# Altium schematic symbol library gpa_connectors.SchLib: 23 symbols
Pins are listed as number, name and electrical type; pins without a type are passive.

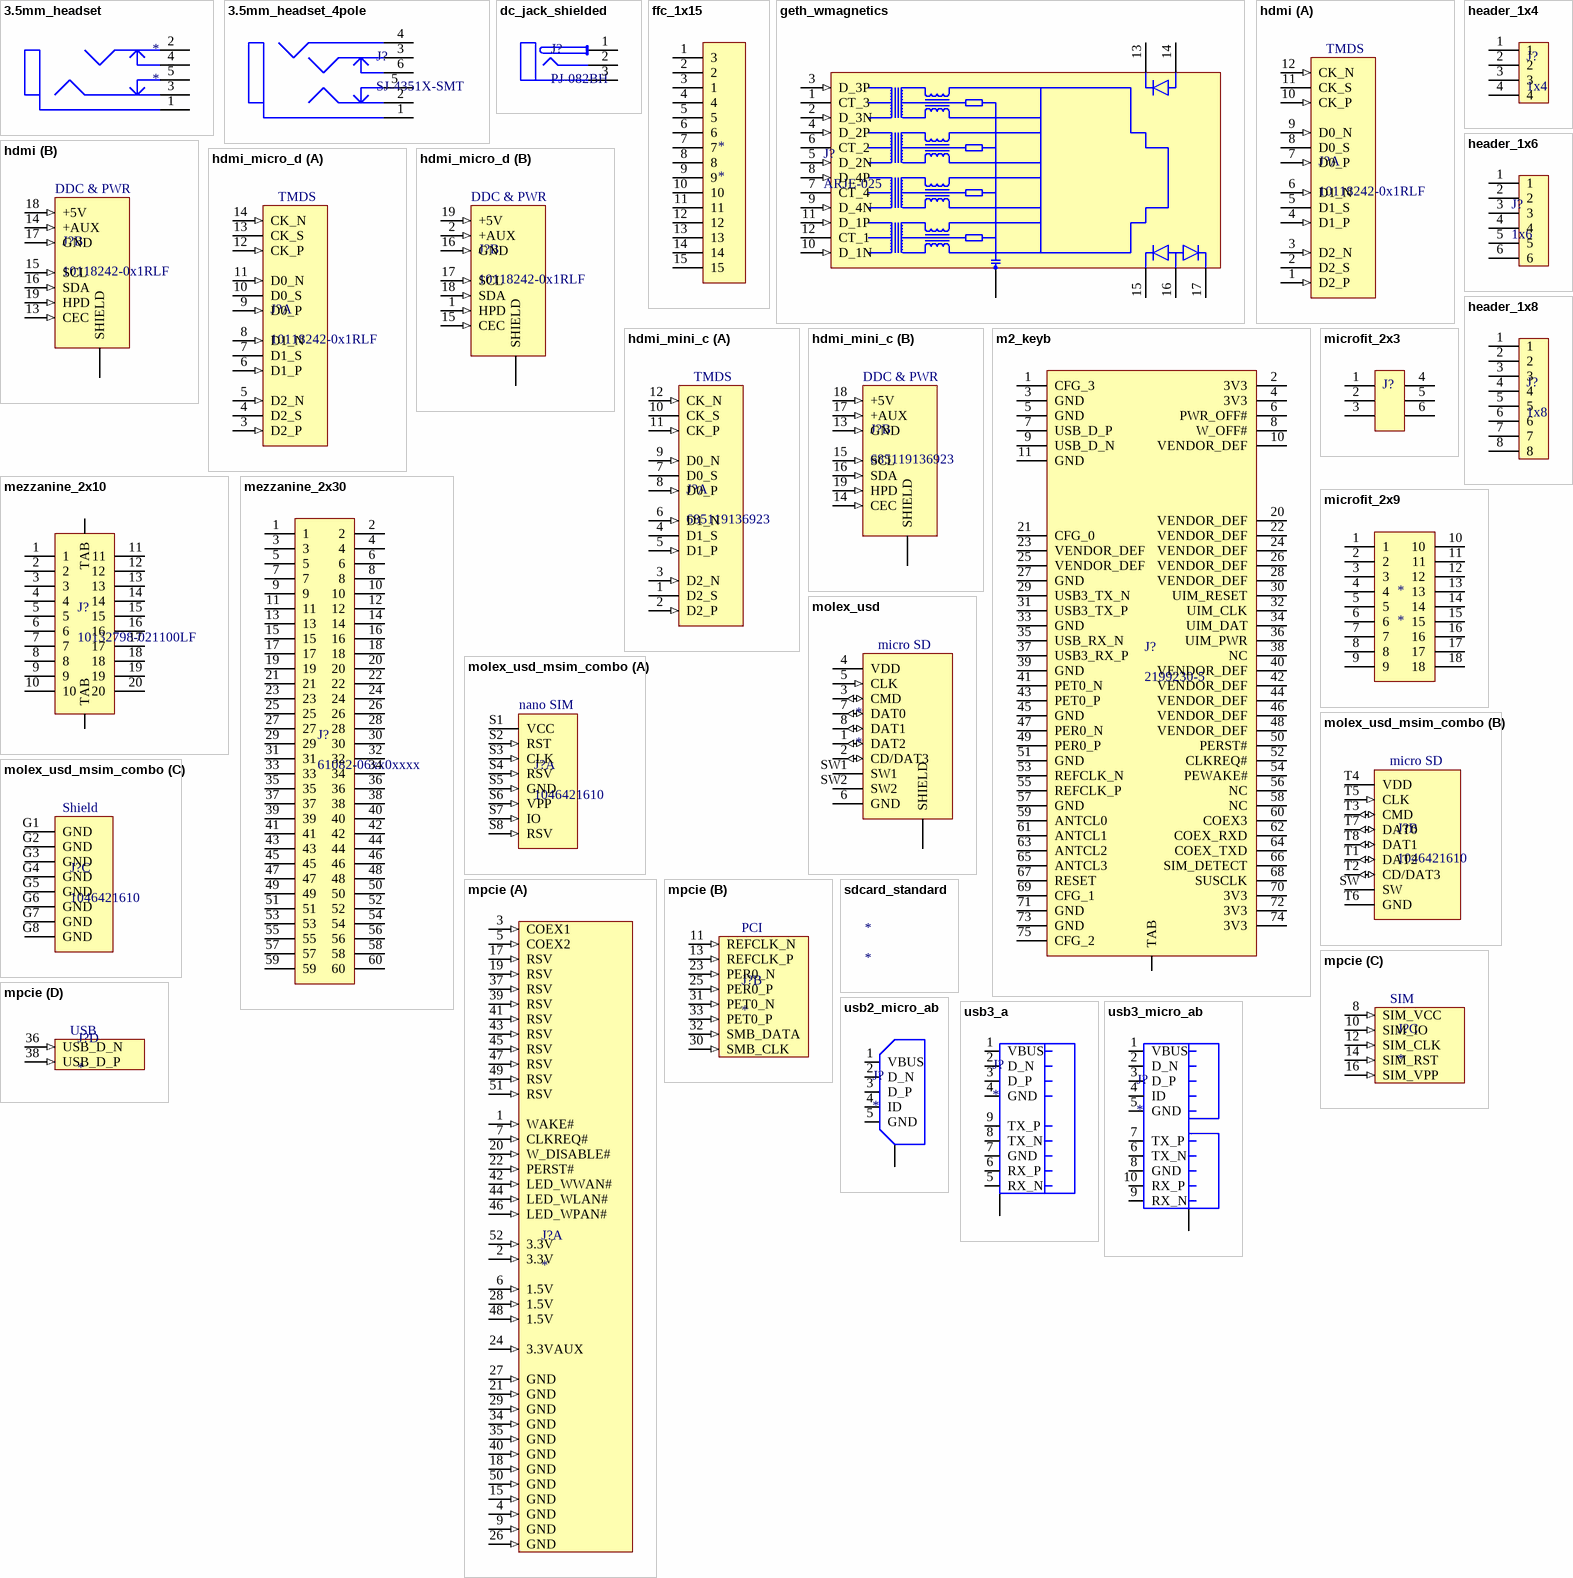
[diagram p0: symbols 3.5mm_headset to usb3_micro_ab]

## 3.5mm_headset
designator *
pins: 1, 2, 3, 4, 5

## 3.5mm_headset_4pole
designator J?, comment SJ-4351X-SMT
footprint CUI_SJ-4351X-SMT (3.5mm Headphone connectoor by CUI)
pins: 1, 2, 3, 4, 5, 6

## dc_jack_shielded
designator J?, comment PJ-082BH
mouser#: 490-PJ-082BH; digikey#: CP-082BHCT-ND
footprint CUI_DC_5.5MM_PJ028 (2.5MM 5.5MM PJ-028BH)
pins: 1, 2, 3

## ffc_1x15
designator *
footprint fci_ffc_1mm_1x15
pins: 1 3, 2, 3 1, 4, 5, 6, 7, 8, 9, 10, 11, 12, 13, 14, 15

## geth_wmagnetics
designator J?, comment ARJE-025
RJ45 with integrated magnetics
footprint abraconn_rj45_arje0025
pins: 1 CT_3, 2 D_3N (in), 3 D_3P (in), 4 D_2P (in), 5 D_2N (in), 6 CT_2, 7 CT_4, 8 D_4P (in), 9 D_4N (in), 10 D_1N (in), 11 D_1P (in), 12 CT_1, 13, 14, 15, 16, 17, SHIELD (power)

## hdmi
designator J?, comment 10118242-0x1RLF
footprint molex_hdmi (47151-0001)
part A pins: 1 D2_P (in), 2 D2_S (power), 3 D2_N (in), 4 D1_P (in), 5 D1_S (power), 6 D1_N (in), 7 D0_P (in), 8 D0_S (power), 9 D0_N (in), 10 CK_P (in), 11 CK_S (power), 12 CK_N (in)
part B pins: 13 CEC (in), 14 +AUX (in), 15 SCL (in), 16 SDA (in), 17 GND (in), 18 +5V (in), 19 HPD (in), SHIELD
part A text: TMDS
part B text: DDC & PWR

## hdmi_micro_d
designator J?, comment 10118242-0x1RLF
footprint fci_micro_hdmi (10118242-001RLF)
part A pins: 3 D2_P (in), 4 D2_S (power), 5 D2_N (in), 6 D1_P (in), 7 D1_S (power), 8 D1_N (in), 9 D0_P (in), 10 D0_S (power), 11 D0_N (in), 12 CK_P (in), 13 CK_S (power), 14 CK_N (in)
part B pins: 1 HPD (in), 2 +AUX (in), 15 CEC (in), 16 GND (in), 17 SCL (in), 18 SDA (in), 19 +5V (in), SHIELD
part A text: TMDS
part B text: DDC & PWR

## hdmi_mini_c
designator J?, comment 685119136923
footprint wurth_hdmi_mini
part A pins: 1 D2_S (power), 2 D2_P (in), 3 D2_N (in), 4 D1_S (power), 5 D1_P (in), 6 D1_N (in), 7 D0_S (power), 8 D0_P (in), 9 D0_N (in), 10 CK_S (power), 11 CK_P (in), 12 CK_N (in)
part B pins: 13 GND (in), 14 CEC (in), 15 SCL (in), 16 SDA (in), 17 +AUX (in), 18 +5V (in), 19 HPD (in), SHIELD
part A text: TMDS
part B text: DDC & PWR

## header_1x4
designator J?, comment 1x4
footprint hdr_100mil_1x4
pins: 1, 2, 3, 4

## header_1x6
designator J?, comment 1x6
footprint hdr_100mil_1x6
pins: 1, 2, 3, 4, 5, 6

## header_1x8
designator J?, comment 1x8
footprint hdr_100mil_1x8
pins: 1, 2, 3, 4, 5, 6, 7, 8

## m2_keyb
designator J?, comment 2199230-5
footprint te_m2_keyb_2230 (TE Connectivity 2199230-5 + JAE SM3ZS067U410)
footprint te_m2_keyb_2230/42 (TE Connectivity 2199230-5 + JAE SM3ZS067U410)
pins: 1 CFG_3, 2 3V3, 3 GND, 4 3V3, 5 GND, 6 PWR_OFF#, 7 USB_D_P, 8 W_OFF#, 9 USB_D_N, 10 VENDOR_DEF, 11 GND, 20 VENDOR_DEF, 21 CFG_0, 22 VENDOR_DEF, 23 VENDOR_DEF, 24 VENDOR_DEF, 25 VENDOR_DEF, 26 VENDOR_DEF, 27 GND, 28 VENDOR_DEF, 29 USB3_TX_N, 30 UIM_RESET, 31 USB3_TX_P, 32 UIM_CLK, 33 GND, 34 UIM_DAT, 35 USB_RX_N, 36 UIM_PWR, 37 USB3_RX_P, 38 NC, 39 GND, 40 VENDOR_DEF, 41 PET0_N, 42 VENDOR_DEF, 43 PET0_P, 44 VENDOR_DEF, 45 GND, 46 VENDOR_DEF, 47 PER0_N, 48 VENDOR_DEF, 49 PER0_P, 50 PERST#, 51 GND, 52 CLKREQ#, 53 REFCLK_N, 54 PEWAKE#, 55 REFCLK_P, 56 NC, 57 GND, 58 NC, 59 ANTCL0, 60 COEX3, 61 ANTCL1, 62 COEX_RXD, 63 ANTCL2, 64 COEX_TXD, 65 ANTCL3, 66 SIM_DETECT, 67 RESET, 68 SUSCLK, 69 CFG_1, 70 3V3, 71 GND, 72 3V3, 73 GND, 74 3V3, 75 CFG_2, TAB

## mezzanine_2x10
designator J?, comment 10132798-021100LF
footprint fci_mezzanine_10132798
pins: 1, 2, 3, 4, 5, 6, 7, 8, 9, 10, 11, 12, 13, 14, 15, 16, 17, 18, 19, 20, 21 TAB, 21 TAB

## mezzanine_2x30
designator J?, comment 61082-06xx0xxxx
footprint fci_mezzanine_61082
pins: 1, 2, 3, 4, 5, 6, 7, 8, 9, 10, 11, 12, 13, 14, 15, 16, 17, 18, 19, 20, 21, 22, 23, 24, 25, 26, 27, 28, 29, 30, 31, 32, 33, 34, 35, 36, 37, 38, 39, 40, 41, 42, 43, 44, 45, 46, 47, 48, 49, 50, 51, 52, 53, 54, 55, 56, 57, 58, 59, 60

## microfit_2x3
designator J?, comment 43045-0600  (value not drawn)
footprint molex_microfit_2x6_90deg
pins: 1, 2, 3, 4, 5, 6

## microfit_2x9
designator *
footprint molex_microfit_2x9
pins: 1, 2, 3, 4, 5, 6, 7, 8, 9, 10, 11, 12, 13, 14, 15, 16, 17, 18

## molex_usd
designator *
footprint molex_usd (104031-0811)
pins: 1 DAT2 (io), 2 CD/DAT3 (io), 3 CMD (io), 4 VDD (power), 5 CLK (in), 6 GND (power), 7 DAT0 (io), 8 DAT1 (io), SHIELD, SW1, SW2
text: micro SD

## molex_usd_msim_combo
designator J?, comment 1046421610
footprint molex_msd_msim_combo
part A pins: S1 VCC (power), S2 RST (in), S3 CLK (in), S4 RSV (in), S5 GND (in), S6 VPP (in), S7 IO (in), S8 RSV (in)
part B pins: SW (oc), T1 DAT2 (io), T2 CD/DAT3 (io), T3 CMD (io), T4 VDD (power), T5 CLK (in), T6 GND (power), T7 DAT0 (io), T8 DAT1 (io)
part C pins: G1 GND (power), G2 GND (power), G3 GND (power), G4 GND (power), G5 GND (power), G6 GND (power), G7 GND (power), G8 GND (power)
part A text: nano SIM
part B text: micro SD
part C text: Shield

## mpcie
designator J?
part A pins: 1 WAKE# (in), 2 3.3V (in), 3 COEX1 (in), 4 GND (in), 5 COEX2 (in), 6 1.5V (in), 7 CLKREQ# (in), 9 GND (in), 15 GND (in), 17 RSV (in), 18 GND (in), 19 RSV (in), 20 W_DISABLE# (in), 21 GND (in), 22 PERST# (in), 24 3.3VAUX (in), 26 GND (in), 27 GND (in), 28 1.5V (in), 29 GND (in), 34 GND (in), 35 GND (in), 37 RSV (in), 39 RSV (in), 40 GND (in), 41 RSV (in), 42 LED_WWAN# (in), 43 RSV (in), 44 LED_WLAN# (in), 45 RSV (in), 46 LED_WPAN# (in), 47 RSV (in), 48 1.5V (in), 49 RSV (in), 50 GND (in), 51 RSV (in), 52 3.3V (in)
part B pins: 11 REFCLK_N (in), 13 REFCLK_P (in), 23 PER0_N (in), 25 PER0_P (in), 30 SMB_CLK (in), 31 PET0_N (in), 32 SMB_DATA (in), 33 PET0_P (in)
part C pins: 8 SIM_VCC (in), 10 SIM_IO (in), 12 SIM_CLK (in), 14 SIM_RST (in), 16 SIM_VPP (in)
part D pins: 36 USB_D_N (in), 38 USB_D_P (in)
part B text: PCI
part C text: SIM
part D text: USB

## sdcard_standard
designator *

## usb2_micro_ab
designator J?
pins: 1 VBUS, 2 D_N, 3 D_P, 4 ID, 5 GND, 6 SHIELD

## usb3_a
designator J?
footprint usb3_a (Molex 48405-000X)
pins: 1 VBUS, 2 D_N, 3 D_P, 4 GND, 5 RX_N, 6 RX_P, 7 GND, 8 TX_N, 9 TX_P, SHIELD

## usb3_micro_ab
designator J?
footprint usb3_micro_ab
pins: 1 VBUS, 2 D_N, 3 D_P, 4 ID, 5 GND, 6 TX_N, 7 TX_P, 8 GND, 9 RX_N, 10 RX_P, SHIELD